# EAGLE library part FDS6679Z (library zz-m-pad-2.1)
Fairchild's FDS6679Z 30 Volt P-Channel PowerTrench MOSFET General Description: This P-Channel MOSFET has been designed specifically to improve the overall efficiency of DC/DC converters using either synchronous or conventional switching PWM controllers, and battery chargers. These MOSFETs feature faster switching and lower gate charge than other MOSFETs with comparable RDS(ON) specifications. The result is a MOSFET that is easy and safer to drive (even at very high frequencies), and DC/DC power supply designs with higher overall efficiency. Features: -13 A, -30 V. RDS(ON) = 9 mOhm @ VGS = -10 V RDS(ON) = 13 mOhm @ VGS = -4.5 V Extended VGSS range (-25V) for battery applications ESD protection diode (note 3) High performance trench technology for extremely low RDS(ON) High power and current handling capability Please send any comments to: messi@users.sourceforge.net
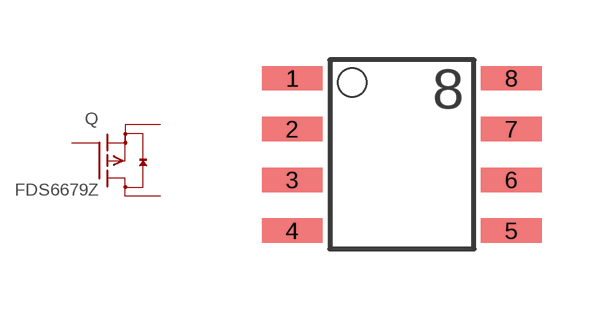
[diagram p70: symbol with the pads of SO-8; footprint SO-8]

Designator prefix Q

## FDS6679Z  [SO-8]
1  S  pas
2  S  pas
3  S  pas
4  G  pas
5  D  pas
6  D  pas
7  D  pas
8  D  pas

## Footprint SO-8 (pad centres in mm)
small outline
smd 1.524 x 0.61: 1 -2.743,1.27; 2 -2.743,0; 3 -2.743,-1.27; 4 -2.743,-2.54; 5 2.743,-2.54; 6 2.743,-1.27; 7 2.743,0; 8 2.743,1.27